# Altium footprint library 2015-02-15_05-56-42.PcbLib: 6 footprints
Each footprint in its own frame and in the unit in brackets; x right, y up, seen from the top. Pads: shape width x height; smd on the part's side, far side on the other; paste and mask are expansions set on the pad; w line width, h text height; cw(c..) or ccw(c..) is an arc to the next point about the centre after c.
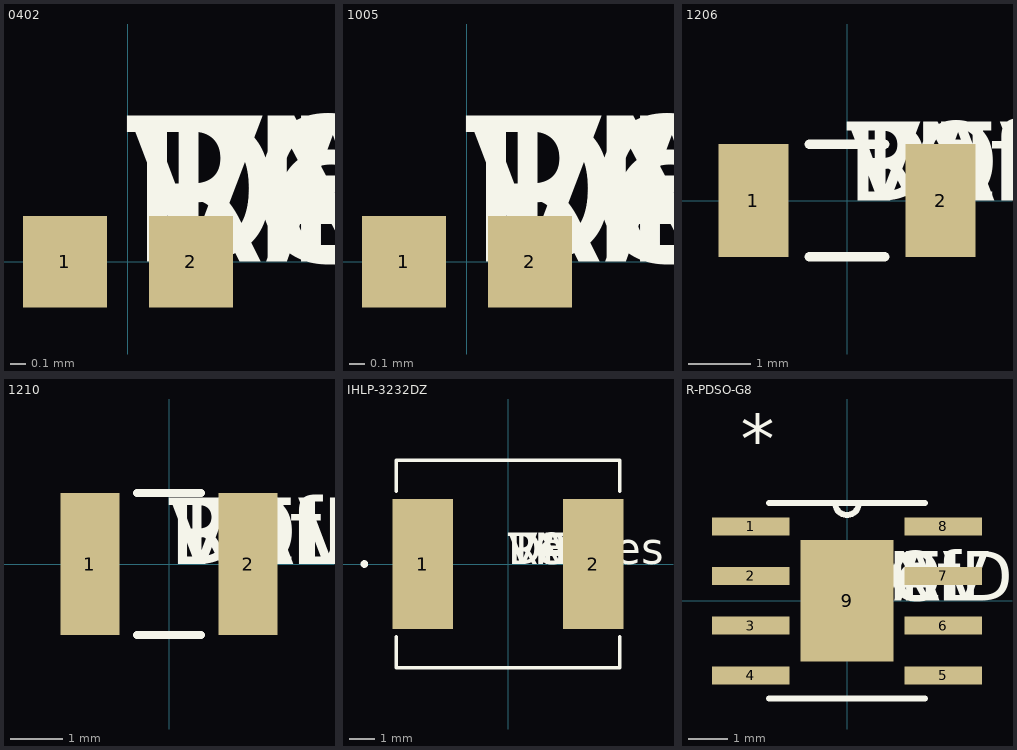
[diagram p0: the footprints below, top view; thin cyan lines are the x and y axes]

## 0402 [mil]
pads (2):
  rect 22x24 smd: 1(-16.5,0) 2(16.5,0)
Top Overlay:
  text "RefDes" at 0,0 h50
  text "DEV" at 0,0 h50
  text "PN" at 0,0 h50
  text "DEV" at 0,0 h50
  text "VAL" at 0,0 h50
  text "TOL" at 0,0 h50

## 1005 [mil]
pads (2):
  rect 22x24 smd: 1(-16.5,0) 2(16.5,0)
Top Overlay:
  text "RefDes" at 0,0 h50
  text "DEV" at 0,0 h50
  text "PN" at 0,0 h50
  text "DEV" at 0,0 h50
  text "VAL" at 0,0 h50
  text "TOL" at 0,0 h50

## 1206 [mil]
pads (2):
  rect 44x71 smd: 1(-59,0) 2(59,0)
Top Overlay:
  lines w6: -23.9,-35.5 23.9,-35.5 ; -23.9,35.5 23.9,35.5
  text "RefDes" at 0,0 h50
  text "DEV" at 0,0 h50
  text "PN" at 0,0 h50
  text "DEV" at 0,0 h50
  text "VAL" at 0,0 h50
  text "TOL" at 0,0 h50

## 1210 [mil]
pads (2):
  rect 44x106 smd: 1(-59,0) 2(59,0)
Top Overlay:
  lines w6: -23.9,-53 23.9,-53 ; -23.9,53 23.9,53
  text "RefDes" at 0,0 h50
  text "DEV" at 0,0 h50
  text "PN" at 0,0 h50
  text "DEV" at 0,0 h50
  text "VAL" at 0,0 h50
  text "TOL" at 0,0 h50

## IHLP-3232DZ [mil]
pads (2):
  rect 95x203 smd: 1(-133.5,0) 2(133.5,0)
Top Overlay:
  circle w6: c-225,0 r3
  lines w6: -175,-114.6 -175,-162.5 175,-162.5 175,-114.6 ; -175,114.6 -175,162.5 175,162.5 175,114.6
  text "RefDes" at 0,0 h50
  text "DEV" at 0,0 h50
  text "PN" at 0,0 h50
  text "DEV" at 0,0 h50
  text "VAL" at 0,0 h50
  text "TOL" at 0,0 h50

## R-PDSO-G8 [mil]
pads (9):
  rect 78x18.14 smd: 1(-97,75) 2(-97,25) 3(-97,-25) 4(-97,-75) 5(97,-75) 6(97,-25) 7(97,25) 8(97,75)
  rect 94x122 smd paste-60.5: 9(0,0)
Top Overlay:
  lines w6: -78.5,-98.5 78.5,-98.5 ; -78.5,98.5 78.5,98.5 ; -12,98.5 ccw(c0,98.5) 12,98.5
  text "*" at -107,138.14 h50
  text "RefDes" at 0,0 h50
  text "DEV" at 0,0 h50
  text "PN" at 0,0 h50
  text "DEV" at 0,0 h50
  text "VAL" at 0,0 h50
  text "TOL" at 0,0 h50
Top Paste:
  region: 43.06,57.06 -43.06,57.06 -43.06,3.94 43.06,3.94
  region: 43.06,-3.94 -43.06,-3.94 -43.06,-57.06 43.06,-57.06